# EAGLE library part SN74CB3Q3306A_DUAL_BUS_SWITCH (library DMF-AS3935_Project)
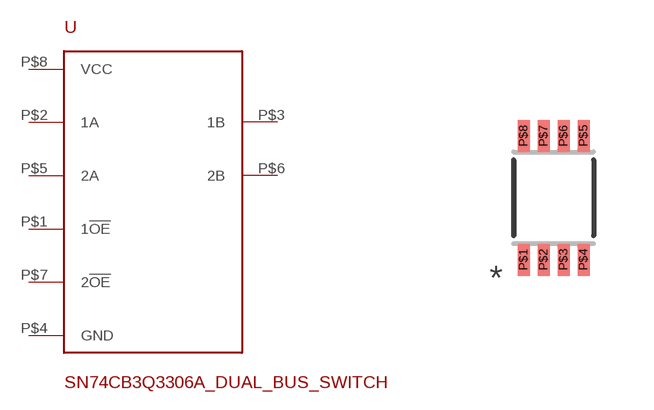
[diagram p1: symbol with the pads of DCU_SN74CB3Q3306A; footprint DCU_SN74CB3Q3306A]

Designator prefix U

## SN74CB3Q3306A_DUAL_BUS_SWITCH  [DCU_SN74CB3Q3306A]
P$1  1!OE
P$2  1A
P$3  1B
P$4  GND
P$5  2A
P$6  2B
P$7  2!OE
P$8  VCC

## Footprint DCU_SN74CB3Q3306A (pad centres in mm)
smd 0.3 x 0.8: P$1 -0.75,-1.55; P$2 -0.25,-1.55; P$3 0.25,-1.55; P$4 0.75,-1.55; P$5 0.75,1.55; P$6 0.25,1.55; P$7 -0.25,1.55; P$8 -0.75,1.55